# EAGLE library part EL1883ISZ (library Intersil_By_element14_Batch_1)
Sync Separator with Horizontal Output
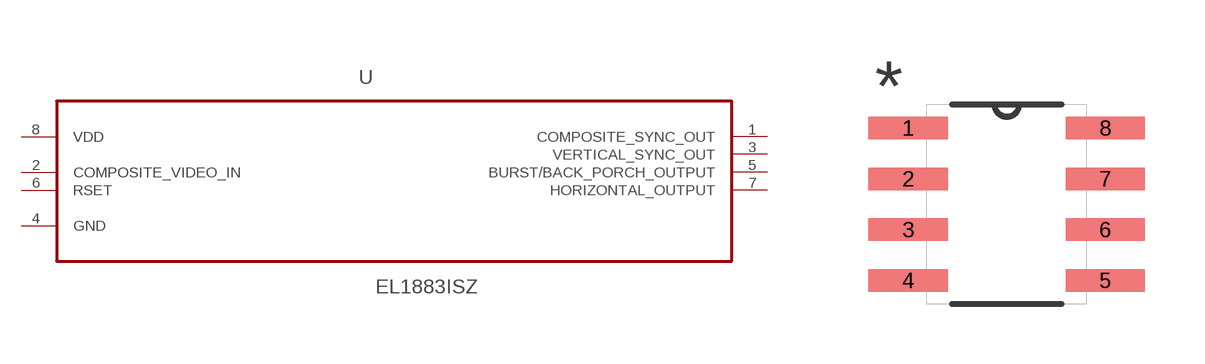
[diagram p50: symbol with the pads of SOIC127P600X175-8N; footprint SOIC127P600X175-8N]

Designator prefix U

## EL1883ISZ (MPN: EL1883ISZ; OC_FARNELL: 1561942; OC_NEWARK: 61J5568; PACKAGE: 8-SOIC; SUPPLIER: Intersil)  [SOIC127P600X175-8N]
1  COMPOSITE_SYNC_OUT  out
2  COMPOSITE_VIDEO_IN  in
3  VERTICAL_SYNC_OUT  out
4  GND  pas
5  BURST/BACK_PORCH_OUTPUT  out
6  RSET  in
7  HORIZONTAL_OUTPUT  out
8  VDD  pwr

## Footprint SOIC127P600X175-8N (pad centres in mm)
smd 1.981 x 0.559: 1 -2.464,1.905; 2 -2.464,0.635; 3 -2.464,-0.635; 4 -2.464,-1.905; 5 2.464,-1.905; 6 2.464,-0.635; 7 2.464,0.635; 8 2.464,1.905